# Altium footprint library ESP32-CAM.PcbLib: 1 footprints
Each footprint in its own frame and in the unit in brackets; x right, y up, seen from the top. Pads: shape width x height; smd on the part's side, far side on the other; paste and mask are expansions set on the pad; w line width, h text height; cw(c..) or ccw(c..) is an arc to the next point about the centre after c.
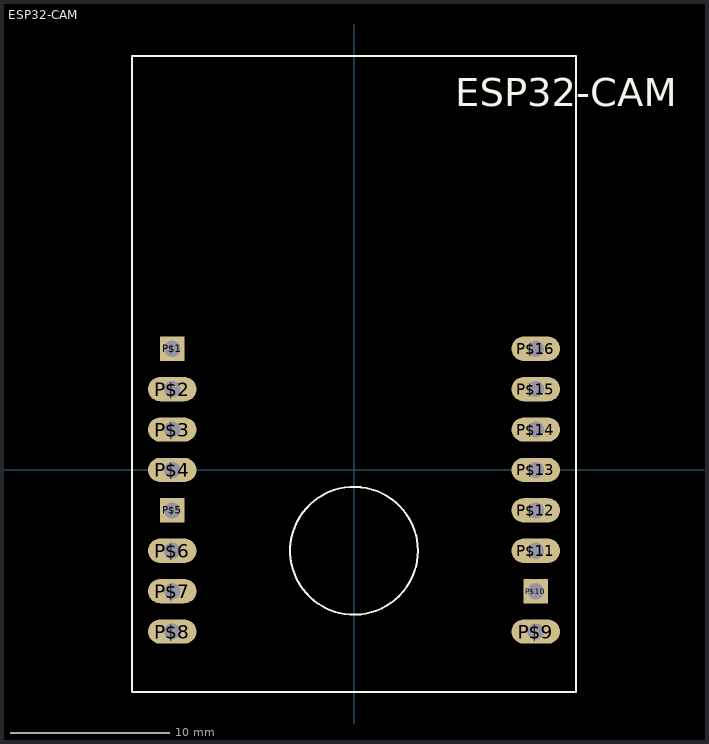
[diagram p0: the footprint, top view; thin cyan lines are the x and y axes]

## ESP32-CAM [mil]
pads (16):
  rect 60x60 / inner round 60 / far side rect 60x60 hole 40: P$1(-450,300) P$5(-450,-100) P$10(450,-300)
  oval 120x60 hole 40: P$2(-450,200) P$3(-450,100) P$4(-450,0) P$6(-450,-200) P$7(-450,-300) P$8(-450,-400) P$9(450,-400) P$11(450,-200) P$12(450,-100) P$13(450,0) P$14(450,100) P$15(450,200) P$16(450,300)
Top Overlay:
  circle w5: c0,-200 r158.11
  lines w5: -550,-550 -550,1025 550,1025 550,-550 -550,-550
  text "ESP32-CAM" at 250,900 h70